# Altium integrated library ASE3-20.000MHZ-KT.IntLib: 1 symbol
Pins are listed as number, name and electrical type; pins without a type are passive.

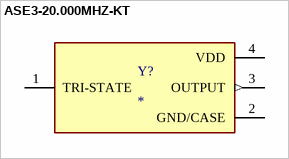
[diagram p0: symbol ASE3-20.000MHZ-KT]

## ASE3-20.000MHZ-KT
designator Y?
MP: ASE3-20.000MHZ-KT; Price: None; Availability: Unavailable; Value: *; Package: None
footprint XTAL_ASE3-20.000MHZ-KT
pins: 1 TRI-STATE, 2 GND/CASE (power), 3 OUTPUT (out), 4 VDD (power)